# EAGLE library part PKU4*13D? (library PKU4x13D)
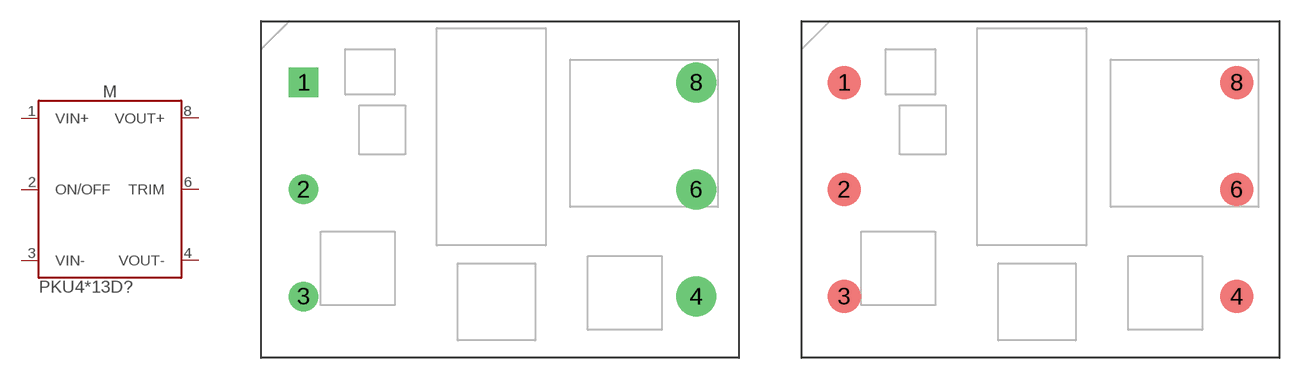
[diagram p0: symbol with the pads of PKU4X13DPI; footprints PKU4X13DPI, PKU4X13DSI]

Designator prefix M

## PKU4113DPI (MF: FLEX; MPN: PKU4113DPI), PKU4213DPI (MF: FLEX; MPN: PKU4213DPI)  [PKU4X13DPI]
1  VIN+  pwr
2  ON/OFF
3  VIN-  pwr
4  VOUT-  pwr
6  TRIM  in
8  VOUT+  pwr

## PKU4113DSI (MF: FLEX; MPN: PKU4113DSI), PKU4213DSI (MF: FLEX; MPN: PKU4213DSI)  [PKU4X13DSI]
Pads as for PKU4X13DPI

## Footprint PKU4X13DPI (pad centres in mm)
drill 1.4 square: 1 -13.97,7.62
drill 1.4: 2 -13.97,0; 3 -13.97,-7.62
drill 1.9: 4 13.97,-7.62; 6 13.97,0; 8 13.97,7.62

## Footprint PKU4X13DSI (pad centres in mm)
smd 2.4 x 2.4: 1 -13.97,7.62; 2 -13.97,0; 3 -13.97,-7.62; 4 13.97,-7.62; 6 13.97,0; 8 13.97,7.62